# Altium footprint library RPi Module.PcbLib: 13 footprints
Each footprint in its own frame and in the unit in brackets; x right, y up, seen from the top. Pads: shape width x height; smd on the part's side, far side on the other; paste and mask are expansions set on the pad; w line width, h text height; cw(c..) or ccw(c..) is an arc to the next point about the centre after c.
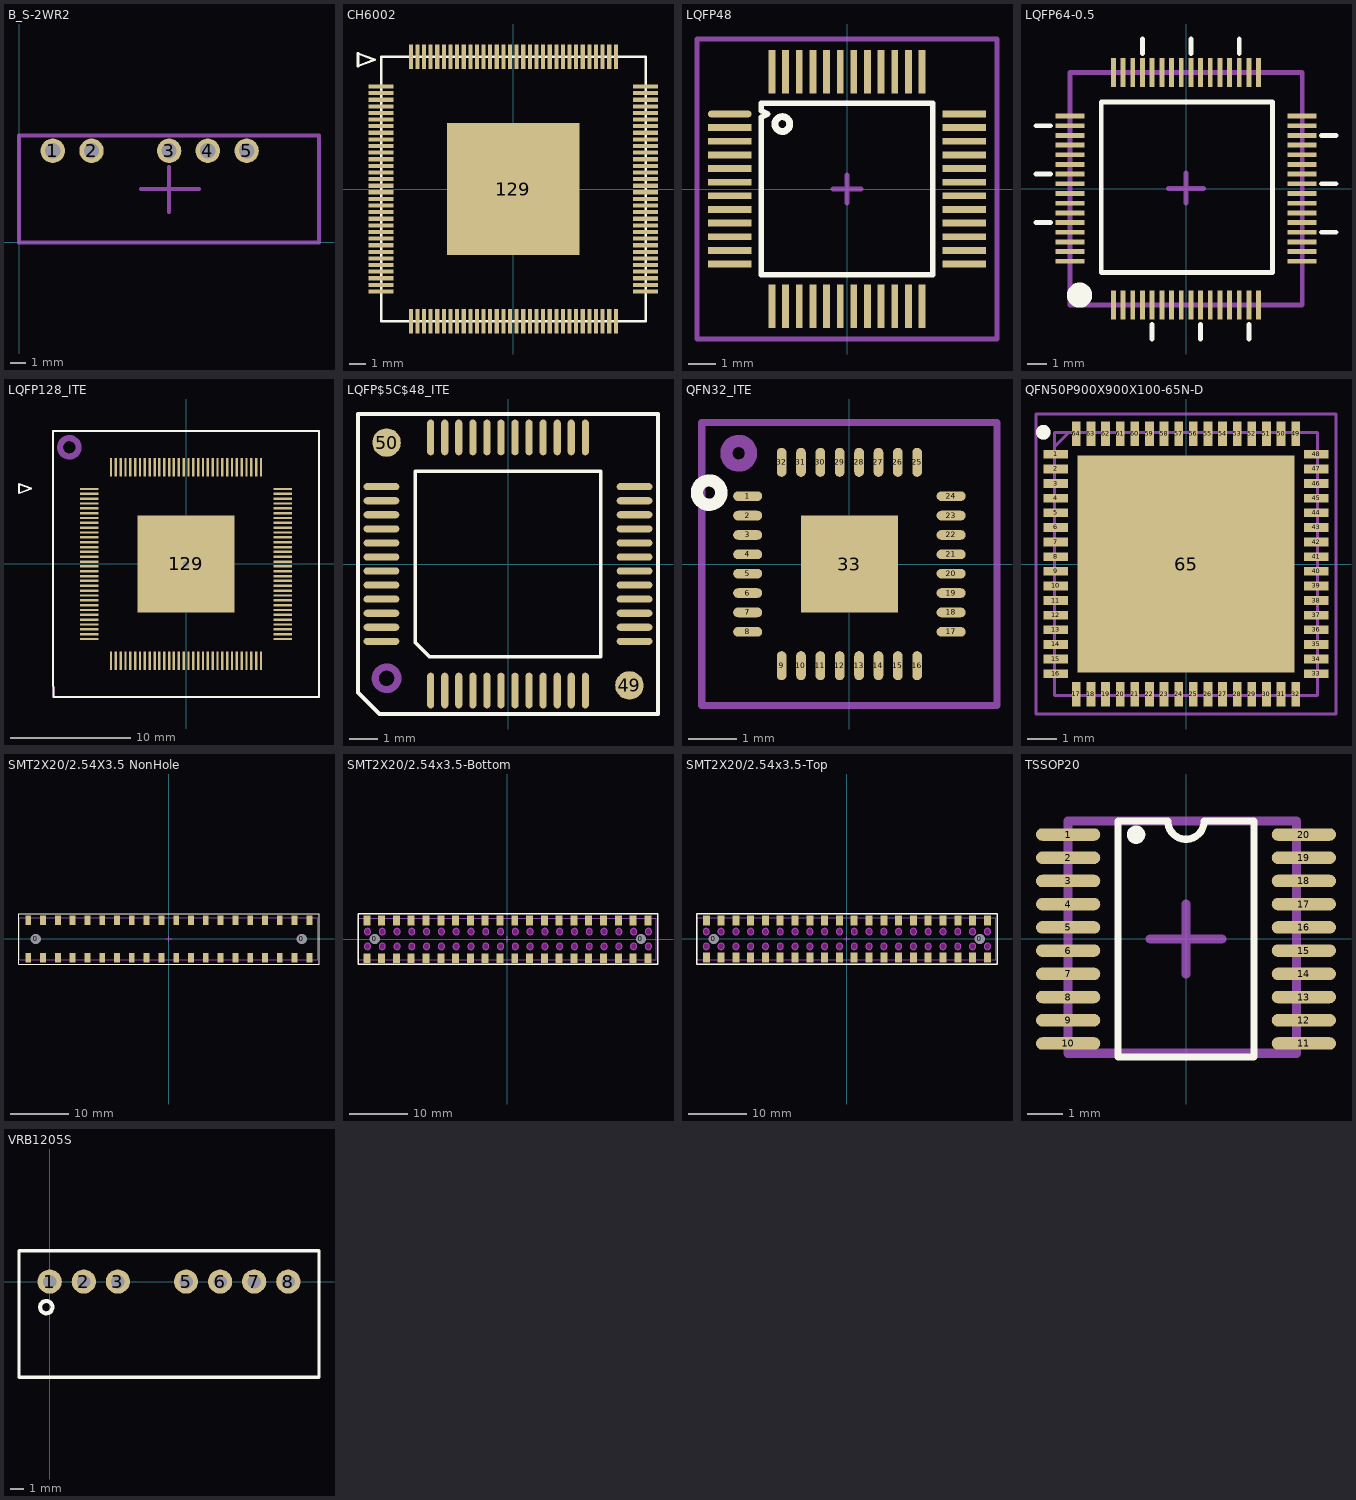
[diagram p0: the footprints below, top view; thin cyan lines are the x and y axes]

## B_S-2WR2 [mm] "MORNSUN A_S-2WR2&B_S-2WR2系列"
pads (5):
  round 1.6 hole 1: 1(2.21,6) 2(4.75,6) 3(9.83,6) 4(12.37,6) 5(14.91,6)
Top Component Outline:
  lines w0.254: 0,0 19.65,0 19.65,7 0,7 0,0
Top Component Center:
  lines w0.254: 7.998,3.498 11.788,3.498 ; 9.83,1.991 9.83,4.941
Top Value:
  text "'.Comment'" at 3.529,2.106 h3
Top Designator:
  text ".Designator" at 2.207,2.992 h1.52
  text "'.Designator'" at 1.42,1.848 h3
3D body "A_S-2WR2.stp": height 10.16, standoff -4.1, extent -0.015,-0.125 19.635,6.925

## CH6002 [mm]
pads (129):
  rect 1.5x0.25 smd: 1(-8,6.2) 2(-8,5.8) 3(-8,5.4) 4(-8,5) 5(-8,4.6) 6(-8,4.2) 7(-8,3.8) 8(-8,3.4) 9(-8,3) 10(-8,2.6) 11(-8,2.2) 12(-8,1.8) 13(-8,1.4) 14(-8,1) 15(-8,0.6) 16(-8,0.2) 17(-8,-0.2) 18(-8,-0.6) 19(-8,-1) 20(-8,-1.4) 21(-8,-1.8) 22(-8,-2.2) 23(-8,-2.6) 24(-8,-3) 25(-8,-3.4) 26(-8,-3.8) 27(-8,-4.2) 28(-8,-4.6) 29(-8,-5) 30(-8,-5.4) 31(-8,-5.8) 32(-8,-6.2) 65(8,-6.2) 66(8,-5.8) 67(8,-5.4) 68(8,-5) 69(8,-4.6) 70(8,-4.2) 71(8,-3.8) 72(8,-3.4) 73(8,-3) 74(8,-2.6) 75(8,-2.2) 76(8,-1.8) 77(8,-1.4) 78(8,-1) 79(8,-0.6) 80(8,-0.2) 81(8,0.2) 82(8,0.6) 83(8,1) 84(8,1.4) 85(8,1.8) 86(8,2.2) 87(8,2.6) 88(8,3) 89(8,3.4) 90(8,3.8) 91(8,4.2) 92(8,4.6) 93(8,5) 94(8,5.4) 95(8,5.8) 96(8,6.2)
  rect 0.25x1.5 smd: 33(-6.2,-8) 34(-5.8,-8) 35(-5.4,-8) 36(-5,-8) 37(-4.6,-8) 38(-4.2,-8) 39(-3.8,-8) 40(-3.4,-8) 41(-3,-8) 42(-2.6,-8) 43(-2.2,-8) 44(-1.8,-8) 45(-1.4,-8) 46(-1,-8) 47(-0.6,-8) 48(-0.2,-8) 49(0.2,-8) 50(0.6,-8) 51(1,-8) 52(1.4,-8) 53(1.8,-8) 54(2.2,-8) 55(2.6,-8) 56(3,-8) 57(3.4,-8) 58(3.8,-8) 59(4.2,-8) 60(4.6,-8) 61(5,-8) 62(5.4,-8) 63(5.8,-8) 64(6.2,-8) 97(6.2,8) 98(5.8,8) 99(5.4,8) 100(5,8) 101(4.6,8) 102(4.2,8) 103(3.8,8) 104(3.4,8) 105(3,8) 106(2.6,8) 107(2.2,8) 108(1.8,8) 109(1.4,8) 110(1,8) 111(0.6,8) 112(0.2,8) 113(-0.2,8) 114(-0.6,8) 115(-1,8) 116(-1.4,8) 117(-1.8,8) 118(-2.2,8) 119(-2.6,8) 120(-3,8) 121(-3.4,8) 122(-3.8,8) 123(-4.2,8) 124(-4.6,8) 125(-5,8) 126(-5.4,8) 127(-5.8,8) 128(-6.2,8)
  rect 8x8 smd: 129(0,0)
Top Overlay:
  lines w0.152: -9.395,7.436 -8.379,7.817 -9.395,8.198 -9.395,7.436 ; -8,-8 -8,8 8,8 8,-8 -8,-8
Top Designator:
  text ".Designator" at -7.927,-0.508 h1.52

## LQFP48 [mm]
height 1.5
pads (48):
  oval 1.6x0.25 smd: 1(-4.3,2.75)
  rect 1.6x0.25 smd: 2(-4.3,2.25) 3(-4.3,1.75) 4(-4.3,1.25) 5(-4.3,0.75) 6(-4.3,0.25) 7(-4.3,-0.25) 8(-4.3,-0.75) 9(-4.3,-1.25) 10(-4.3,-1.75) 11(-4.3,-2.25) 12(-4.3,-2.75) 25(4.3,-2.75) 26(4.3,-2.25) 27(4.3,-1.75) 28(4.3,-1.25) 29(4.3,-0.75) 30(4.3,-0.25) 31(4.3,0.25) 32(4.3,0.75) 33(4.3,1.25) 34(4.3,1.75) 35(4.3,2.25) 36(4.3,2.75)
  rect 0.25x1.6 smd: 13(-2.75,-4.3) 14(-2.25,-4.3) 15(-1.75,-4.3) 16(-1.25,-4.3) 17(-0.75,-4.3) 18(-0.25,-4.3) 19(0.25,-4.3) 20(0.75,-4.3) 21(1.25,-4.3) 22(1.75,-4.3) 23(2.25,-4.3) 24(2.75,-4.3) 37(2.75,4.3) 38(2.25,4.3) 39(1.75,4.3) 40(1.25,4.3) 41(0.75,4.3) 42(0.25,4.3) 43(-0.25,4.3) 44(-0.75,4.3) 45(-1.25,4.3) 46(-1.75,4.3) 47(-2.25,4.3) 48(-2.75,4.3)
Top Overlay:
  circle w0.254: c-2.37,2.38 r0.272
  lines w0.2: -3.15,-3.15 3.15,-3.15 3.15,3.15 -3.15,3.15 -3.15,2.875 -2.9,2.75 -3.15,2.625 -3.15,-3.15
Top Designator:
  text ".Designator" at -7.618,-0.508 h1.52
Top Designator (Mech15):
  text ".Designator" at 7.618,-0.508 h1.52
Bottom Designator (Mech16):
  lines w0.2: -0.5,0 0,0 ; 0,-0.5 0,0 ; 0,0.5 0,0 ; 0.5,0 0,0 ; -5.5,-5.5 5.5,-5.5 5.5,5.5 -5.5,5.5 -5.5,-5.5

## LQFP64-0.5 [mm]
pads (64):
  rect 0.25x1.5 smd: 1(-3.75,-6) 2(-3.25,-6) 3(-2.75,-6) 4(-2.25,-6) 5(-1.75,-6) 6(-1.25,-6) 7(-0.75,-6) 8(-0.25,-6) 9(0.25,-6) 10(0.75,-6) 11(1.25,-6) 12(1.75,-6) 13(2.25,-6) 14(2.75,-6) 15(3.25,-6) 16(3.75,-6) 33(3.75,6) 34(3.25,6) 35(2.75,6) 36(2.25,6) 37(1.75,6) 38(1.25,6) 39(0.75,6) 40(0.25,6) 41(-0.25,6) 42(-0.75,6) 43(-1.25,6) 44(-1.75,6) 45(-2.25,6) 46(-2.75,6) 47(-3.25,6) 48(-3.75,6)
  rect 1.5x0.25 smd: 17(6,-3.75) 18(6,-3.25) 19(6,-2.75) 20(6,-2.25) 21(6,-1.75) 22(6,-1.25) 23(6,-0.75) 24(6,-0.25) 25(6,0.25) 26(6,0.75) 27(6,1.25) 28(6,1.75) 29(6,2.25) 30(6,2.75) 31(6,3.25) 32(6,3.75) 49(-6,3.75) 50(-6,3.25) 51(-6,2.75) 52(-6,2.25) 53(-6,1.75) 54(-6,1.25) 55(-6,0.75) 56(-6,0.25) 57(-6,-0.25) 58(-6,-0.75) 59(-6,-1.25) 60(-6,-1.75) 61(-6,-2.25) 62(-6,-2.75) 63(-6,-3.25) 64(-6,-3.75)
Top Overlay:
  circle w0.7: c-5.5,-5.5 r0.3
  lines w0.25: -7.741,-1.75 -6.996,-1.75 ; -7.741,0.75 -6.996,0.75 ; -7.741,3.25 -6.996,3.25 ; -2.25,6.983 -2.25,7.728 ; -1.75,-7.765 -1.75,-7.02 ; 0.25,6.983 0.25,7.728 ; 0.75,-7.765 0.75,-7.02 ; 2.75,6.983 2.75,7.728 ; 3.25,-7.765 3.25,-7.02 ; 6.992,-2.25 7.737,-2.25 ; 6.992,0.25 7.737,0.25 ; 6.992,2.75 7.737,2.75
  lines w0.254: -4.379,-4.324 4.472,-4.324 4.472,4.476 -4.379,4.476 -4.379,-4.324
Top Component Outline:
  lines w0.254: -6,-6 -6,6 6,6 6,-6 -6,-6
Top Component Center:
  lines w0.254: -0.9,0 0.9,0 ; 0,-0.75 0,0.8
Top Value:
  text "'.Comment'" at -5.9,-0.481 h2.54
Top Designator:
  text "'.Designator'" at -7.1,-0.256 h2.54
3D body "LQFP64 10x10.STEP": height 1.45, standoff 0, extent -6.003,-5.986 6.003,6.02

## LQFP128_ITE [mm]
pads (129):
  rect 1.5x0.195 smd: 1(-8,6.2) 2(-8,5.8) 3(-8,5.4) 4(-8,5) 5(-8,4.6) 6(-8,4.2) 7(-8,3.8) 8(-8,3.4) 9(-8,3) 10(-8,2.6) 11(-8,2.2) 12(-8,1.8) 13(-8,1.4) 14(-8,1) 15(-8,0.6) 16(-8,0.2) 17(-8,-0.2) 18(-8,-0.6) 19(-8,-1) 20(-8,-1.4) 21(-8,-1.8) 22(-8,-2.2) 23(-8,-2.6) 24(-8,-3) 25(-8,-3.4) 26(-8,-3.8) 27(-8,-4.2) 28(-8,-4.6) 29(-8,-5) 30(-8,-5.4) 31(-8,-5.8) 32(-8,-6.2) 65(8,-6.2) 66(8,-5.8) 67(8,-5.4) 68(8,-5) 69(8,-4.6) 70(8,-4.2) 71(8,-3.8) 72(8,-3.4) 73(8,-3) 74(8,-2.6) 75(8,-2.2) 76(8,-1.8) 77(8,-1.4) 78(8,-1) 79(8,-0.6) 80(8,-0.2) 81(8,0.2) 82(8,0.6) 83(8,1) 84(8,1.4) 85(8,1.8) 86(8,2.2) 87(8,2.6) 88(8,3) 89(8,3.4) 90(8,3.8) 91(8,4.2) 92(8,4.6) 93(8,5) 94(8,5.4) 95(8,5.8) 96(8,6.2)
  rect 0.195x1.5 smd: 33(-6.2,-8) 34(-5.8,-8) 35(-5.4,-8) 36(-5,-8) 37(-4.6,-8) 38(-4.2,-8) 39(-3.8,-8) 40(-3.4,-8) 41(-3,-8) 42(-2.6,-8) 43(-2.2,-8) 44(-1.8,-8) 45(-1.4,-8) 46(-1,-8) 47(-0.6,-8) 48(-0.2,-8) 49(0.2,-8) 50(0.6,-8) 51(1,-8) 52(1.4,-8) 53(1.8,-8) 54(2.2,-8) 55(2.6,-8) 56(3,-8) 57(3.4,-8) 58(3.8,-8) 59(4.2,-8) 60(4.6,-8) 61(5,-8) 62(5.4,-8) 63(5.8,-8) 64(6.2,-8) 97(6.2,8) 98(5.8,8) 99(5.4,8) 100(5,8) 101(4.6,8) 102(4.2,8) 103(3.8,8) 104(3.4,8) 105(3,8) 106(2.6,8) 107(2.2,8) 108(1.8,8) 109(1.4,8) 110(1,8) 111(0.6,8) 112(0.2,8) 113(-0.2,8) 114(-0.6,8) 115(-1,8) 116(-1.4,8) 117(-1.8,8) 118(-2.2,8) 119(-2.6,8) 120(-3,8) 121(-3.4,8) 122(-3.8,8) 123(-4.2,8) 124(-4.6,8) 125(-5,8) 126(-5.4,8) 127(-5.8,8) 128(-6.2,8)
  rect 8x8 / inner round 0.5 / far side rect 8x8 hole 0.5: 129(0,0)
Top Overlay:
  lines w0.152: -13.814,5.861 -13.814,6.623 -12.798,6.242 -13.814,5.861 ; -11,-9.248 -11,11 11,11 11,-11 -10.95,-11 -11,-9.248
Top Designator:
  text ".Designator" at -9.025,-0.508 h1.52
Top Designator (Mech15):
  text ".Designator" at 6.21,-0.508 h1.52
Mechanical 29:
  circle w0.508: c-9.652,9.652 r0.762
  lines w0.152: -11,-9.248 -10.95,-11 11,-11 11,11 -11,11 -11,-9.248
  text "'.Designator'" at -6.096,-1.143 h1.02
3D body "LQFP128 14x14.STEP": height 1.45, standoff 0, extent -8.005,-8.003 8.001,8.003

## LQFP$5C$48_ITE [mm]
pads (50):
  oval 0.254x1.27 smd: 1(-2.75,-4.5) 2(-2.25,-4.5) 3(-1.75,-4.5) 4(-1.25,-4.5) 5(-0.75,-4.5) 6(-0.25,-4.5) 7(0.25,-4.5) 8(0.75,-4.5) 9(1.25,-4.5) 10(1.75,-4.5) 11(2.25,-4.5) 12(2.75,-4.5) 25(2.75,4.5) 26(2.25,4.5) 27(1.75,4.5) 28(1.25,4.5) 29(0.75,4.5) 30(0.25,4.5) 31(-0.25,4.5) 32(-0.75,4.5) 33(-1.25,4.5) 34(-1.75,4.5) 35(-2.25,4.5) 36(-2.75,4.5)
  oval 1.27x0.254 smd: 13(4.5,-2.75) 14(4.5,-2.25) 15(4.5,-1.75) 16(4.5,-1.25) 17(4.5,-0.75) 18(4.5,-0.25) 19(4.5,0.25) 20(4.5,0.75) 21(4.5,1.25) 22(4.5,1.75) 23(4.5,2.25) 24(4.5,2.75) 37(-4.5,2.75) 38(-4.5,2.25) 39(-4.5,1.75) 40(-4.5,1.25) 41(-4.5,0.75) 42(-4.5,0.25) 43(-4.5,-0.25) 44(-4.5,-0.75) 45(-4.5,-1.25) 46(-4.5,-1.75) 47(-4.5,-2.25) 48(-4.5,-2.75)
  round 1.016 smd: 49(4.318,-4.318) 50(-4.318,4.318)
Top Overlay:
  lines w0.127: -5.334,-4.572 -5.334,5.334 5.334,5.334 5.334,-5.334 -4.572,-5.334 -5.334,-4.572 ; -3.302,-2.794 -3.302,3.302 3.302,3.302 3.302,-3.302 -2.794,-3.302 -3.302,-2.794
Top Designator:
  text ".Designator" at -7.577,-0.508 h1.52
Top Designator (Mech15):
  text ".Designator" at 7.658,-0.508 h1.52
Mechanical 29:
  circle w0.254: c-4.318,-4.064 r0.402
  lines w0.127: -5.334,-4.572 -4.572,-5.334 5.334,-5.334 5.334,5.334 -5.334,5.334 -5.334,-4.572
  text "'.Designator'" at -5.842,-1.016 h1.02
3D body "LQFP48 7X7.STEP": height 1.45, standoff 0, extent -4.5,-4.503 4.506,4.503

## QFN32_ITE [mm]
pads (33):
  oval 0.6x0.2 smd: 1(-2.1,1.4) 2(-2.1,1) 3(-2.1,0.6) 4(-2.1,0.2) 5(-2.1,-0.2) 6(-2.1,-0.6) 7(-2.1,-1) 8(-2.1,-1.4) 17(2.1,-1.4) 18(2.1,-1) 19(2.1,-0.6) 20(2.1,-0.2) 21(2.1,0.2) 22(2.1,0.6) 23(2.1,1) 24(2.1,1.4)
  oval 0.2x0.6 smd: 9(-1.4,-2.1) 10(-1,-2.1) 11(-0.6,-2.1) 12(-0.2,-2.1) 13(0.2,-2.1) 14(0.6,-2.1) 15(1,-2.1) 16(1.4,-2.1) 25(1.4,2.1) 26(1,2.1) 27(0.6,2.1) 28(0.2,2.1) 29(-0.2,2.1) 30(-0.6,2.1) 31(-1,2.1) 32(-1.4,2.1)
  rect 2x2 smd: 33(0,0)
Top Overlay:
  circle w0.254: c-2.896,1.473 r0.251
Top Designator:
  text ".Designator" at -7.196,-0.508 h1.52
Top Designator (Mech15):
  text ".Designator" at 8.039,-0.508 h1.52
Mechanical 29:
  circle w0.254: c-2.286,2.286 r0.254
  lines w0.152: -3.048,-2.921 3.048,-2.921 3.048,2.921 -3.048,2.921 -3.048,-2.921
  text "'.Designator'" at -5.461,-1.016 h1.02
3D body: height 1, standoff 0, extent -2.159,-2.032 2.159,2.159

## QFN50P900X900X100-65N-D [mm] "QFN-65"
pads (65):
  rect 0.85x0.3 smd: 1(-4.45,3.75) 2(-4.45,3.25) 3(-4.45,2.75) 4(-4.45,2.25) 5(-4.45,1.75) 6(-4.45,1.25) 7(-4.45,0.75) 8(-4.45,0.25) 9(-4.45,-0.25) 10(-4.45,-0.75) 11(-4.45,-1.25) 12(-4.45,-1.75) 13(-4.45,-2.25) 14(-4.45,-2.75) 15(-4.45,-3.25) 16(-4.45,-3.75) 33(4.45,-3.75) 34(4.45,-3.25) 35(4.45,-2.75) 36(4.45,-2.25) 37(4.45,-1.75) 38(4.45,-1.25) 39(4.45,-0.75) 40(4.45,-0.25) 41(4.45,0.25) 42(4.45,0.75) 43(4.45,1.25) 44(4.45,1.75) 45(4.45,2.25) 46(4.45,2.75) 47(4.45,3.25) 48(4.45,3.75)
  rect 0.3x0.85 smd: 17(-3.75,-4.45) 18(-3.25,-4.45) 19(-2.75,-4.45) 20(-2.25,-4.45) 21(-1.75,-4.45) 22(-1.25,-4.45) 23(-0.75,-4.45) 24(-0.25,-4.45) 25(0.25,-4.45) 26(0.75,-4.45) 27(1.25,-4.45) 28(1.75,-4.45) 29(2.25,-4.45) 30(2.75,-4.45) 31(3.25,-4.45) 32(3.75,-4.45) 49(3.75,4.45) 50(3.25,4.45) 51(2.75,4.45) 52(2.25,4.45) 53(1.75,4.45) 54(1.25,4.45) 55(0.75,4.45) 56(0.25,4.45) 57(-0.25,4.45) 58(-0.75,4.45) 59(-1.25,4.45) 60(-1.75,4.45) 61(-2.25,4.45) 62(-2.75,4.45) 63(-3.25,4.45) 64(-3.75,4.45)
  rect 7.4x7.4 smd: 65(0,0)
Top Overlay:
  circle w0.25: c-4.875,4.5 r0.125
Top Designator:
  text ".Designator" at -7.45,-0.508 h1.52
Mechanical 13:
  lines w0.1: -4.5,4 -4,4.5 ; -4.5,-4.5 -4.5,4.5 4.5,4.5 4.5,-4.5 -4.5,-4.5
Top Designator (Mech15):
  lines w0.05: -5.125,-5.125 -5.125,5.125 5.125,5.125 5.125,-5.125 -5.125,-5.125
  text ".Designator" at 7.785,-0.508 h1.52
Mechanical 29:
  circle w0.25: c-4.875,4.5 r0.125
  lines w0.1: -5.125,-5.125 5.125,-5.125 5.125,5.125 -5.125,5.125 -5.125,-5.125
  text "'.Designator'" at -5.715,-1.27 h1.02
3D body "LAN9514-JZX.stp": height 1, standoff 0, extent -4.55,-4.55 4.55,4.55

## SMT2X20/2.54X3.5 NonHole [mm]
pads (42):
  round 1.6 hole 1.8 unplated: 0(-22.86,0) 0(22.86,0)
  rect 1x1.6 smd: 1(-24.13,3.2) 2(-24.13,-3.2) 3(-21.59,3.2) 4(-21.59,-3.2) 5(-19.05,3.2) 6(-19.05,-3.2) 7(-16.51,3.2) 8(-16.51,-3.2) 9(-13.97,3.2) 10(-13.97,-3.2) 11(-11.43,3.2) 12(-11.43,-3.2) 13(-8.89,3.2) 14(-8.89,-3.2) 15(-6.35,3.2) 16(-6.35,-3.2) 17(-3.81,3.2) 18(-3.81,-3.2) 19(-1.27,3.2) 20(-1.27,-3.2) 21(1.27,3.2) 22(1.27,-3.2) 23(3.81,3.2) 24(3.81,-3.2) 25(6.35,3.2) 26(6.35,-3.2) 27(8.89,3.2) 28(8.89,-3.2) 29(11.43,3.2) 30(11.43,-3.2) 31(13.97,3.2) 32(13.97,-3.2) 33(16.51,3.2) 34(16.51,-3.2) 35(19.05,3.2) 36(19.05,-3.2) 37(21.59,3.2) 38(21.59,-3.2) 39(24.13,3.2) 40(24.13,-3.2)
Top Overlay:
  lines w0.203: -25.72,-4.318 25.781,-4.318 25.781,4.317 -25.72,4.317 -25.72,-4.318
Top Component Outline:
  lines w0.1: -25.65,-3.5 -25.6,-3.55 25.6,-3.55 25.6,3.65 -25.65,3.65 -25.65,-3.5
Top Component Center:
  lines w0.1: -0.5,0 0.5,0 ; 0,-0.5 0,0.5
Top Value:
  text "'.Comment'" at -5.5,-0.759 h2.54
Top Designator:
  text ".Designator" at -7.587,-0.508 h1.52
  text "'.Designator'" at -15.898,-1.189 h3.05
3D body "2.54-3.55 矮贴片排母.STEP": height 3.77, standoff -0.15, extent -25.541,-3.729 25.659,3.471

## SMT2X20/2.54x3.5-Bottom [mm]
pads (42):
  round 1.6 hole 1.8 unplated: 0(-22.765,0.05) 0(22.955,0.05)
  rect 1.2x1.7 smd: 1(-24.13,3.25) 2(-24.13,-3.25) 3(-21.59,3.25) 4(-21.59,-3.25) 5(-19.05,3.25) 6(-19.05,-3.25) 7(-16.51,3.25) 8(-16.51,-3.25) 9(-13.97,3.25) 10(-13.97,-3.25) 11(-11.43,3.25) 12(-11.43,-3.25) 13(-8.89,3.25) 14(-8.89,-3.25) 15(-6.35,3.25) 16(-6.35,-3.25) 17(-3.81,3.25) 18(-3.81,-3.25) 19(-1.27,3.25) 20(-1.27,-3.25) 21(1.27,3.25) 22(1.27,-3.25) 23(3.81,3.25) 24(3.81,-3.25) 25(6.35,3.25) 26(6.35,-3.25) 27(8.89,3.25) 28(8.89,-3.25) 29(11.43,3.25) 30(11.43,-3.25) 31(13.97,3.25) 32(13.97,-3.25) 33(16.51,3.25) 34(16.51,-3.25) 35(19.05,3.25) 36(19.05,-3.25) 37(21.59,3.25) 38(21.59,-3.25) 39(24.13,3.25) 40(24.13,-3.25)
Top Overlay:
  lines w0.254: 25.846,-4.268 -25.655,-4.268 -25.625,-4.268 -25.625,4.367 25.876,4.367 25.876,-4.268
Keep-Out Layer:
  drawing of 41 lines, arcs and shapes, not listed
Mechanical 1:
  circle w0.05: c1.365,1.32 r0.55
  circle w0.05: c24.225,1.32 r0.55
  circle w0.05: c3.905,1.32 r0.55
  circle w0.05: c-16.415,1.32 r0.55
  circle w0.05: c-1.175,1.32 r0.55
  circle w0.05: c-3.715,1.32 r0.55
  circle w0.05: c-13.875,1.32 r0.55
  circle w0.05: c-11.335,1.32 r0.55
  circle w0.05: c-8.795,1.32 r0.55
  circle w0.05: c-6.255,1.32 r0.55
  circle w0.05: c-21.495,1.32 r0.55
  circle w0.05: c-18.955,1.32 r0.55
  circle w0.05: c16.605,1.32 r0.55
  circle w0.05: c21.685,1.32 r0.55
  circle w0.05: c6.445,1.32 r0.55
  circle w0.05: c11.525,1.32 r0.55
  circle w0.05: c19.145,1.32 r0.55
  circle w0.05: c8.985,1.32 r0.55
  circle w0.05: c14.065,1.32 r0.55
  circle w0.05: c-24.035,1.32 r0.55
  circle w0.05: c24.225,-1.22 r0.55
  circle w0.05: c16.605,-1.22 r0.55
  circle w0.05: c3.905,-1.22 r0.55
  circle w0.05: c21.685,-1.22 r0.55
  circle w0.05: c19.145,-1.22 r0.55
  circle w0.05: c11.525,-1.22 r0.55
  circle w0.05: c14.065,-1.22 r0.55
  circle w0.05: c6.445,-1.22 r0.55
  circle w0.05: c8.985,-1.22 r0.55
  circle w0.05: c-1.175,-1.22 r0.55
  circle w0.05: c-8.795,-1.22 r0.55
  circle w0.05: c-6.255,-1.22 r0.55
  circle w0.05: c-16.415,-1.22 r0.55
  circle w0.05: c-18.955,-1.22 r0.55
  circle w0.05: c-13.875,-1.22 r0.55
  circle w0.05: c-21.495,-1.22 r0.55
  circle w0.05: c-11.335,-1.22 r0.55
  circle w0.05: c1.365,-1.22 r0.55
  circle w0.05: c-3.715,-1.22 r0.55
  circle w0.05: c-24.035,-1.22 r0.55
Top Component Outline:
  lines w0.1: -25.65,-3.5 -25.6,-3.55 25.6,-3.55 25.6,3.65 -25.65,3.65 -25.65,-3.5
Top Component Center:
  lines w0.1: -0.5,0 0.5,0 ; 0,-0.5 0,0.5
Top Value:
  text "'.Comment'" at -5.5,-0.759 h2.54
Top Designator:
  text ".Designator" at -7.507,-0.458 h1.52
  text "'.Designator'" at -15.898,-1.189 h3.05
3D body "2.54-3.55 矮贴片排母.STEP": height 3.77, standoff -0.15, extent -25.505,-3.506 25.695,3.694

## SMT2X20/2.54x3.5-Top [mm]
pads (42):
  round 1.6 hole 1.8 unplated: 0(-22.86,0) 0(22.86,0)
  rect 1.2x1.7 smd: 1(-24.13,-3.2) 2(-24.13,3.2) 3(-21.59,-3.2) 4(-21.59,3.2) 5(-19.05,-3.2) 6(-19.05,3.2) 7(-16.51,-3.2) 8(-16.51,3.2) 9(-13.97,-3.2) 10(-13.97,3.2) 11(-11.43,-3.2) 12(-11.43,3.2) 13(-8.89,-3.2) 14(-8.89,3.2) 15(-6.35,-3.2) 16(-6.35,3.2) 17(-3.81,-3.2) 18(-3.81,3.2) 19(-1.27,-3.2) 20(-1.27,3.2) 21(1.27,-3.2) 22(1.27,3.2) 23(3.81,-3.2) 24(3.81,3.2) 25(6.35,-3.2) 26(6.35,3.2) 27(8.89,-3.2) 28(8.89,3.2) 29(11.43,-3.2) 30(11.43,3.2) 31(13.97,-3.2) 32(13.97,3.2) 33(16.51,-3.2) 34(16.51,3.2) 35(19.05,-3.2) 36(19.05,3.2) 37(21.59,-3.2) 38(21.59,3.2) 39(24.13,-3.2) 40(24.13,3.2)
Top Overlay:
  lines w0.254: -25.72,-4.318 25.781,-4.318 25.781,4.317 -25.72,4.317 -25.72,-4.318
Keep-Out Layer:
  drawing of 41 lines, arcs and shapes, not listed
Mechanical 1:
  circle w0.05: c-24.13,-1.27 r0.55
  circle w0.05: c-3.81,-1.27 r0.55
  circle w0.05: c1.27,-1.27 r0.55
  circle w0.05: c-11.43,-1.27 r0.55
  circle w0.05: c-21.59,-1.27 r0.55
  circle w0.05: c-13.97,-1.27 r0.55
  circle w0.05: c-19.05,-1.27 r0.55
  circle w0.05: c-16.51,-1.27 r0.55
  circle w0.05: c-6.35,-1.27 r0.55
  circle w0.05: c-8.89,-1.27 r0.55
  circle w0.05: c-1.27,-1.27 r0.55
  circle w0.05: c8.89,-1.27 r0.55
  circle w0.05: c6.35,-1.27 r0.55
  circle w0.05: c13.97,-1.27 r0.55
  circle w0.05: c11.43,-1.27 r0.55
  circle w0.05: c19.05,-1.27 r0.55
  circle w0.05: c21.59,-1.27 r0.55
  circle w0.05: c3.81,-1.27 r0.55
  circle w0.05: c16.51,-1.27 r0.55
  circle w0.05: c24.13,-1.27 r0.55
  circle w0.05: c-24.13,1.27 r0.55
  circle w0.05: c13.97,1.27 r0.55
  circle w0.05: c8.89,1.27 r0.55
  circle w0.05: c19.05,1.27 r0.55
  circle w0.05: c11.43,1.27 r0.55
  circle w0.05: c6.35,1.27 r0.55
  circle w0.05: c21.59,1.27 r0.55
  circle w0.05: c16.51,1.27 r0.55
  circle w0.05: c-19.05,1.27 r0.55
  circle w0.05: c-21.59,1.27 r0.55
  circle w0.05: c-6.35,1.27 r0.55
  circle w0.05: c-8.89,1.27 r0.55
  circle w0.05: c-11.43,1.27 r0.55
  circle w0.05: c-13.97,1.27 r0.55
  circle w0.05: c-3.81,1.27 r0.55
  circle w0.05: c-1.27,1.27 r0.55
  circle w0.05: c-16.51,1.27 r0.55
  circle w0.05: c3.81,1.27 r0.55
  circle w0.05: c24.13,1.27 r0.55
  circle w0.05: c1.27,1.27 r0.55
Top Component Outline:
  lines w0.1: -25.65,-3.5 -25.65,3.65 25.6,3.65 25.6,-3.55 -25.6,-3.55 -25.65,-3.5
Top Component Center:
  lines w0.1: -0.5,0 0.5,0 ; 0,-0.5 0,0.5
Top Value:
  text "'.Comment'" at -5.5,-0.759 h2.54
Top Designator:
  text ".Designator" at -7.587,-0.508 h1.52
  text "'.Designator'" at -15.898,-1.189 h3.05
3D body "2.54-3.55 矮贴片排母.STEP": height 3.77, standoff -0.15, extent -25.6,-3.556 25.6,3.644

## TSSOP20 [mm]
pads (20):
  oval 1.8x0.35 smd: 1(-3.3,2.925) 2(-3.3,2.275) 3(-3.3,1.625) 4(-3.3,0.975) 5(-3.3,0.325) 6(-3.3,-0.325) 7(-3.3,-0.975) 8(-3.3,-1.625) 9(-3.3,-2.275) 10(-3.3,-2.925) 11(3.3,-2.925) 12(3.3,-2.275) 13(3.3,-1.625) 14(3.3,-0.975) 15(3.3,-0.325) 16(3.3,0.325) 17(3.3,0.975) 18(3.3,1.625) 19(3.3,2.275) 20(3.3,2.925)
Top Overlay:
  circle w0.254: c-1.397,2.921 r0.13
  lines w0.2: -1.905,-3.3 -1.905,3.299 -0.508,3.302 ccw(c0,3.3) 0.508,3.3 1.905,3.3 1.905,-3.3 -1.905,-3.3
Top Component Outline:
  lines w0.254: -3.3,-3.2 -3.3,3.3 3.1,3.3 3.1,-3.2 -3.3,-3.2
Top Component Center:
  lines w0.254: -1,0 1,0 ; 0,-0.975 0,0.975
Top Value:
  text "'.Comment'" at -5.5,-0.481 h2.54
Top Designator:
  text "'.Designator'" at -7,-0.056 h2.54
3D body "TSSOP20.STEP": height 1.03, standoff -0.02, extent -3.278,-3.249 3.126,3.251

## VRB1205S [mm] "DCDC模块"
height 12
pads (7):
  round 1.8 hole 1: 1(0,0) 2(2.54,0) 3(5.08,0) 5(10.16,0) 6(12.7,0) 7(15.24,0) 8(17.78,0)
Top Overlay:
  circle w0.3: c-0.254,-1.905 r0.458
  lines w0.254: -2.286,-7.112 -2.286,2.286 20.066,2.286 20.066,-7.112 -2.286,-7.112
Top Designator:
  text ".Designator" at 1.272,-2.921 h1.52
Top Designator (Mech15):
  lines w0.152: -2.286,-7.112 20.066,-7.112 20.066,2.286 -2.286,2.286 -2.286,-7.112
  text "'.Designator'" at 2.921,-3.683 h2.03
  text ".Designator" at 16.508,-2.921 h1.52
3D body "VRB_S-6WR3.stp": height 12.1, standoff -4, extent -2.11,-7.112 19.89,2.388